# Altium schematic symbol library Schlib1.SchLib: 3 symbols
Pins are listed as number, name and electrical type; pins without a type are passive.

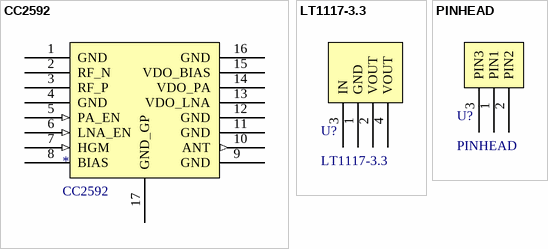
[diagram p0: symbols CC2592 to PINHEAD]

## CC2592
designator *
footprint QFN127P600-8N
pins: 1 GND (power), 2 RF_N, 3 RF_P, 4 GND (power), 5 PA_EN (in), 6 LNA_EN (in), 7 HGM (in), 8 BIAS, 9 GND (power), 10 ANT (out), 11 GND (power), 12 GND (power), 13 VDO_LNA (power), 14 VDO_PA (power), 15 VDO_BIAS (power), 16 GND (power), 17 GND_GP (power)

## LT1117-3.3
designator U?
800mA Low Dropout  Positive Regulators
footprint SOT230P700X180-4L (SOT223, 4-Leads, Body 6,50x7,00mm (avg), Pitch 2,30mm, IPC High Density)
pins: 1 GND (power), 2 VOUT (power), 3 IN (power), 4 VOUT (power)

## PINHEAD
designator U?
footprint DIP6
pins: 1 PIN1 (power), 2 PIN2 (power), 3 PIN3 (power)